# EAGLE library part YMF262 (library oldschool)
FM Operator Type L3 (OPL3)
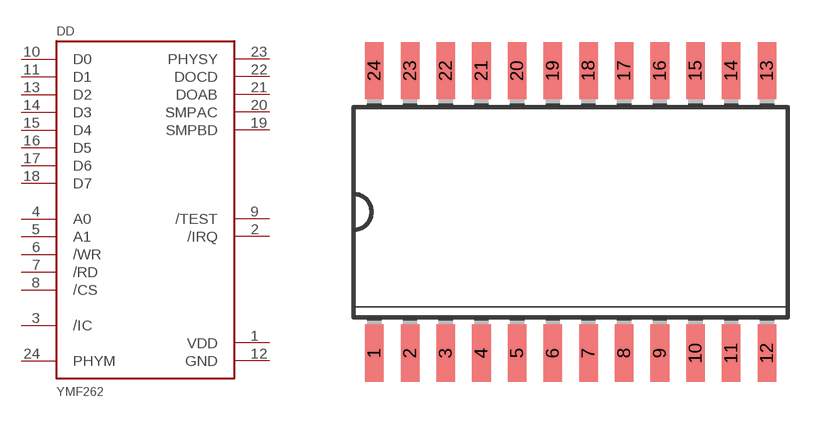
[diagram p11: symbol with the pads of SO24R; footprint SO24R]

Designator prefix DD

## YMF262-M  [SO24R]
1  VDD  pwr
2  /IRQ  out
3  /IC  in
4  A0  in
5  A1  in
6  /WR  in
7  /RD  in
8  /CS  in
9  /TEST  out
10  D0
11  D1
12  GND  pwr
13  D2
14  D3
15  D4
16  D5
17  D6
18  D7
19  SMPBD  out
20  SMPAC  out
21  DOAB  out
22  DOCD  out
23  PHYSY  out
24  PHYM  in

## Footprint SO24R (pad centres in mm)
24-Lead Wide Body SOIC (R-24) Source: http://www.analog.com/UploadedFiles/Data_Sheets/39677768AD7714_c.pdf
smd 0.66 x 2.032: 1 -6.985,-5.029; 2 -5.715,-5.029; 3 -4.445,-5.029; 4 -3.175,-5.029; 5 -1.905,-5.029; 6 -0.635,-5.029; 7 0.635,-5.029; 8 1.905,-5.029; 9 3.175,-5.029; 10 4.445,-5.029; 11 5.715,-5.029; 12 6.985,-5.029; 13 6.985,5.029; 14 5.715,5.029; 15 4.445,5.029; 16 3.175,5.029; 17 1.905,5.029; 18 0.635,5.029; 19 -0.635,5.029; 20 -1.905,5.029; 21 -3.175,5.029; 22 -4.445,5.029; 23 -5.715,5.029; 24 -6.985,5.029